# EAGLE library part V36SE12004NRFA (library power_supplies)
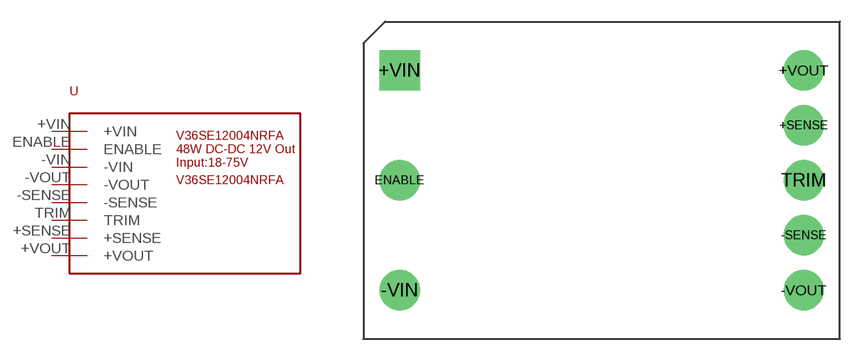
[diagram p0: symbol with the pads of V36SE12004NRFA-TH; footprint V36SE12004NRFA-TH]

Designator prefix -

## V36SE12004NRFA (DESCRIPTION: MODULE DC/DC 1/16 BRICK 12V 4A; MANUFACTURER: Delta Electronics; MPN: V36SE12004NRFA)  [V36SE12004NRFA-TH]
+SENSE  +SENSE
+VIN  +VIN
+VOUT  +VOUT
-SENSE  -SENSE
-VIN  -VIN
-VOUT  -VOUT
ENABLE  ENABLE
TRIM  TRIM

## Footprint V36SE12004NRFA-TH (pad centres in mm)
drill 1.8 pad 2.8: +SENSE 14,3.81; +VOUT 14,7.62; -SENSE 14,-3.81; -VIN -14,-7.62; -VOUT 14,-7.62; ENABLE -14,0; TRIM 14,0
drill 1.8 pad 2.8 square: +VIN -14,7.62